# EAGLE library part S08P (library con-amp-mt)
AMP MT CONNECTOR
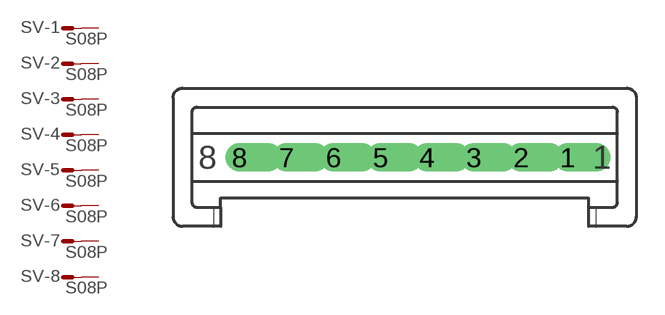
[diagram p17: symbol with the pads of S08P; footprint S08P]

Designator prefix SV; gates -1=M -2=M -3=M -4=M -5=M -6=M -7=M -8=M

## S08P  [S08P]
1  -1:S  pas
2  -2:S  pas
3  -3:S  pas
4  -4:S  pas
5  -5:S  pas
6  -6:S  pas
7  -7:S  pas
8  -8:S  pas

## Footprint S08P (pad centres in mm)
AMP MT CONNECTOR
drill 1.016 offset: 1 8.75,0; 2 6.25,0; 3 3.75,0; 4 1.25,0; 5 -1.25,0; 6 -3.75,0; 7 -6.25,0; 8 -8.75,0